# Altium footprint library EISI.PcbLib: 695 footprints (part 39 of 44)
Each footprint in its own frame and in the unit in brackets; x right, y up, seen from the top. Pads: shape width x height; smd on the part's side, far side on the other; paste and mask are expansions set on the pad; w line width, h text height; cw(c..) or ccw(c..) is an arc to the next point about the centre after c.
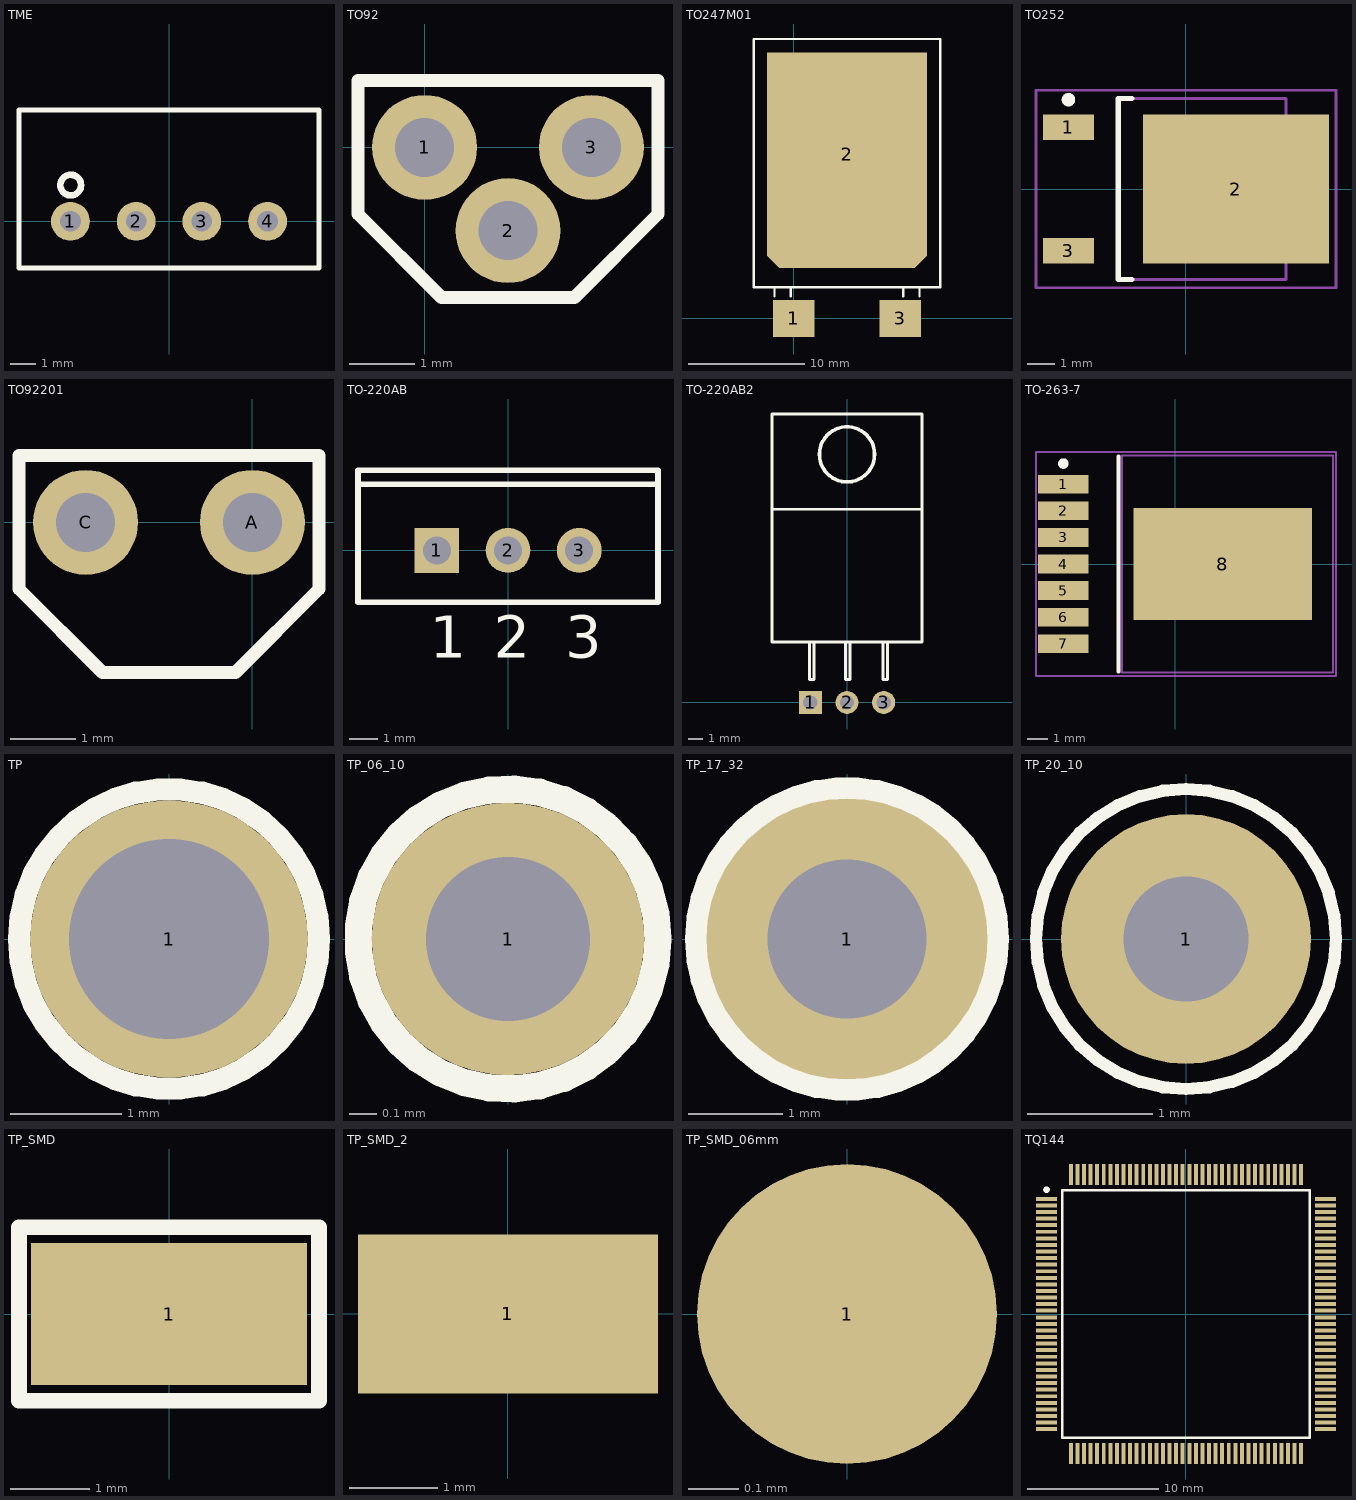
[diagram p38: the footprints below, top view; thin cyan lines are the x and y axes]

## TME [mm] "Traco TME DC/DC"
height 10.2
pads (4):
  round 1.5 hole 0.8: 1(-3.81,0) 2(-1.27,0) 3(1.27,0) 4(3.81,0)
TopOverlay:
  circle w0.254: c-3.8,1.4 r0.4
  lines w0.2: -5.8,-1.8 -5.8,4.3 5.8,4.3 5.8,-1.8 -5.8,-1.8

## TO92 [mm]
pads (3):
  round 1.6 hole 0.9: 1(0,0) 2(1.27,-1.27) 3(2.54,0)
TopOverlay:
  lines w0.2: -1.016,-1.016 -1.016,1.016 3.556,1.016 3.556,-1.016 2.286,-2.286 0.254,-2.286 -1.016,-1.016

## TO247M01 [mil]
pads (6):
  rect 140x125 smd: 1(0,0) 3(360,0)
  rect 540x690 smd: 2(180,555)
  rect 56.5x56.5 smd rot 45: ""(-50,210)
  rect 460x44 smd: ""(180,192)
  rect 56.5x56.5 smd rot 135: ""(410,210)
MidLayer14:
  rectangle: -15,835 65,875
  rectangle: 285,835 365,875
  rectangle: 250,170 330,195
  rectangle: 30,170 110,195
TopOverlay:
  lines w7.87: -65,75 -65,105 ; -10,75 -10,105 ; 370,75 370,105 ; 425,75 425,105 ; -135,105 495,105 495,945 -135,945 -135,105
TopPaste:
  lines w4: -84,217.5 -84,212.5 -81,209.5 ; -82.5,213 -79,213 ; -52.5,181 -47.5,176 -47,176 -39,176 ; -47,177.5 -45.5,179 ; -23,213.5 405.5,213.5 ; -20,211 403.5,211 ; 399,176 407,176 407.5,176 412.5,181 ; 405.5,179 407,177.5 ; 439,213 442.5,213 ; 441,209.5 444,212.5 444,217.5

## TO252 [mm] "D-PAK, 4-Leads, Body 6.1x6.6mm, Pitch 2.29mm, Lead Span 9.7mm, IPC Medium Density"
height 2.38
pads (3):
  rect 1.9x0.95 smd: 1(-4.35,2.28) 3(-4.35,-2.28)
  rect 6.9x5.5 smd: 2(1.85,0)
TopOverlay:
  circle w0.25: c-4.35,3.305 r0.125
  lines w0.2: -2,-3.35 -2.5,-3.35 -2.5,3.35 -2,3.35
Mechanical13:
  lines w0.1: -2.5,-3.35 3.7,-3.35 3.7,3.35 -2.5,3.35 -2.5,-3.35
Mechanical15:
  lines w0.1: -0.5,0 0.5,0 ; 0,-0.5 0,0.5 ; -5.55,-3.65 5.55,-3.65 5.55,3.65 -5.55,3.65 -5.55,-3.65
3D body: height 2.38, standoff 0, extent -2.499,-3.349 3.699,3.349

## TO92201 [mm]
pads (2):
  round 1.6 hole 0.9: A(0,0) C(-2.54,0)
TopOverlay:
  lines w0.2: -3.556,-1.016 -3.556,1.016 1.016,1.016 1.016,-1.016 -0.254,-2.286 -2.286,-2.286 -3.556,-1.016

## TO-220AB [mm] "TO, Thru-Hole, Vertical, Heatsink Mounted; 3 In-Line Leads; Pitch 2.54 mm"
height 19.3
pads (3):
  rect 1.6x1.6 hole 1: 1(-2.54,0)
  round 1.6 hole 1: 2(0,0) 3(2.54,0)
TopOverlay:
  lines w0.2: -5.35,2.35 5.35,2.35 ; -5.35,-1.85 5.35,-1.85 5.35,2.85 -5.35,2.85 -5.35,-1.85
  text "2" at -0.5,-3.825 h1.5
  text "1" at -2.79,-3.825 h1.5
  text "3" at 2.04,-3.825 h1.5

## TO-220AB2 [mm]
height 19.3
pads (3):
  rect 1.6x1.6 hole 1: 1(-2.54,0)
  round 1.6 hole 1: 2(0,0) 3(2.54,0)
TopOverlay:
  circle w0.254: c0,17.2 r1.91
  lines w0.2: -5.2,13.4 5.2,13.4 ; -2.6,4.2 -2.6,1.6 -2.3,1.6 -2.3,4.2 ; -0.1,4.2 -0.1,1.6 0.2,1.6 0.2,4.2 ; 2.5,4.2 2.5,1.6 2.8,1.6 2.8,4.2 ; -5.2,4.2 -5.2,20 5.2,20 5.2,4.2 -5.2,4.2

## TO-263-7 [mm] "D2-PAK, 8-Leads, Body 9.9x10.2mm, Pitch 1.27mm, Lead Span 13.8mm, NSC Recommended"
height 4.67
pads (8):
  rect 2.41x0.89 smd: 1(-5.35,3.81) 2(-5.35,2.54) 3(-5.35,1.27) 4(-5.35,0) 5(-5.35,-1.27) 6(-5.35,-2.54) 7(-5.35,-3.81)
  rect 8.54x5.35 smd: 8(2.28,0)
TopOverlay:
  circle w0.25: c-5.35,4.805 r0.125
  lines w0.2: -2.7,-5.15 -2.7,5.15
Mechanical13:
  lines w0.1: -2.55,-5.2 7.55,-5.2 7.55,5.2 -2.55,5.2 -2.55,-5.2
Mechanical15:
  lines w0.1: -0.5,0 0.5,0 ; 0,-0.5 0,0.5 ; -6.655,-5.35 7.7,-5.35 7.7,5.35 -6.655,5.35 -6.655,-5.35
3D body: height 4.67, standoff 0, extent -2.55,-5.2 7.55,5.2

## TP [mm] "Test point"
pads (1):
  round 2.5 hole 1.8: 1(0,0)
TopOverlay:
  circle w0.2: c0,0 r1.35

## TP_06_10 [mm] "Cos de test perçage 0.6mm diamètre 1mm"
pads (1):
  round 1 hole 0.6: 1(0,0)
TopOverlay:
  circle w0.1: c0,0 r0.55

## TP_17_32 [mm] "Cos de test perçage 1.7mm diamètre 3.2mm"
height 5
pads (1):
  round 3 hole 1.7: 1(0,0)
TopOverlay:
  circle w0.254: c0,0 r1.6

## TP_20_10 [mm] "Testpoint trou 1mm pad 2mm"
pads (1):
  round 2 hole 1 paste-0.05: 1(0,0)
TopOverlay:
  circle w0.1: c0,0 r1.2

## TP_SMD [mm]
pads (1):
  rect 3.5x1.8 smd: 1(0,0)
TopOverlay:
  lines w0.2: -1.9,-1.1 1.9,-1.1 1.9,1.1 -1.9,1.1 -1.9,-1.1

## TP_SMD_2 [mm] "Testpoint 236 730-0 Compona"
height 1.5
pads (1):
  rect 3.4x1.8 smd paste-0.05: 1(0,0)

## TP_SMD_06mm [mm] "Test point 0.6mm"
pads (1):
  round 0.6 smd: 1(0,0)

## TQ144 [mm] "144-Pin Thin Quad Flat Pack (TQ144)"
height 1.6
pads (144):
  rect 1.6x0.3 smd: 1(-10.6,8.75) 2(-10.6,8.25) 3(-10.6,7.75) 4(-10.6,7.25) 5(-10.6,6.75) 6(-10.6,6.25) 7(-10.6,5.75) 8(-10.6,5.25) 9(-10.6,4.75) 10(-10.6,4.25) 11(-10.6,3.75) 12(-10.6,3.25) 13(-10.6,2.75) 14(-10.6,2.25) 15(-10.6,1.75) 16(-10.6,1.25) 17(-10.6,0.75) 18(-10.6,0.25) 19(-10.6,-0.25) 20(-10.6,-0.75) 21(-10.6,-1.25) 22(-10.6,-1.75) 23(-10.6,-2.25) 24(-10.6,-2.75) 25(-10.6,-3.25) 26(-10.6,-3.75) 27(-10.6,-4.25) 28(-10.6,-4.75) 29(-10.6,-5.25) 30(-10.6,-5.75) 31(-10.6,-6.25) 32(-10.6,-6.75) 33(-10.6,-7.25) 34(-10.6,-7.75) 35(-10.6,-8.25) 36(-10.6,-8.75) 73(10.6,-8.75) 74(10.6,-8.25) 75(10.6,-7.75) 76(10.6,-7.25) 77(10.6,-6.75) 78(10.6,-6.25) 79(10.6,-5.75) 80(10.6,-5.25) 81(10.6,-4.75) 82(10.6,-4.25) 83(10.6,-3.75) 84(10.6,-3.25) 85(10.6,-2.75) 86(10.6,-2.25) 87(10.6,-1.75) 88(10.6,-1.25) 89(10.6,-0.75) 90(10.6,-0.25) 91(10.6,0.25) 92(10.6,0.75) 93(10.6,1.25) 94(10.6,1.75) 95(10.6,2.25) 96(10.6,2.75) 97(10.6,3.25) 98(10.6,3.75) 99(10.6,4.25) 100(10.6,4.75) 101(10.6,5.25) 102(10.6,5.75) 103(10.6,6.25) 104(10.6,6.75) 105(10.6,7.25) 106(10.6,7.75) 107(10.6,8.25) 108(10.6,8.75)
  rect 0.3x1.6 smd: 37(-8.75,-10.6) 38(-8.25,-10.6) 39(-7.75,-10.6) 40(-7.25,-10.6) 41(-6.75,-10.6) 42(-6.25,-10.6) 43(-5.75,-10.6) 44(-5.25,-10.6) 45(-4.75,-10.6) 46(-4.25,-10.6) 47(-3.75,-10.6) 48(-3.25,-10.6) 49(-2.75,-10.6) 50(-2.25,-10.6) 51(-1.75,-10.6) 52(-1.25,-10.6) 53(-0.75,-10.6) 54(-0.25,-10.6) 55(0.25,-10.6) 56(0.75,-10.6) 57(1.25,-10.6) 58(1.75,-10.6) 59(2.25,-10.6) 60(2.75,-10.6) 61(3.25,-10.6) 62(3.75,-10.6) 63(4.25,-10.6) 64(4.75,-10.6) 65(5.25,-10.6) 66(5.75,-10.6) 67(6.25,-10.6) 68(6.75,-10.6) 69(7.25,-10.6) 70(7.75,-10.6) 71(8.25,-10.6) 72(8.75,-10.6) 109(8.75,10.6) 110(8.25,10.6) 111(7.75,10.6) 112(7.25,10.6) 113(6.75,10.6) 114(6.25,10.6) 115(5.75,10.6) 116(5.25,10.6) 117(4.75,10.6) 118(4.25,10.6) 119(3.75,10.6) 120(3.25,10.6) 121(2.75,10.6) 122(2.25,10.6) 123(1.75,10.6) 124(1.25,10.6) 125(0.75,10.6) 126(0.25,10.6) 127(-0.25,10.6) 128(-0.75,10.6) 129(-1.25,10.6) 130(-1.75,10.6) 131(-2.25,10.6) 132(-2.75,10.6) 133(-3.25,10.6) 134(-3.75,10.6) 135(-4.25,10.6) 136(-4.75,10.6) 137(-5.25,10.6) 138(-5.75,10.6) 139(-6.25,10.6) 140(-6.75,10.6) 141(-7.25,10.6) 142(-7.75,10.6) 143(-8.25,10.6) 144(-8.75,10.6)
TopOverlay:
  circle w0.25: c-10.6,9.45 r0.125
  lines w0.2: -9.4,-9.4 -9.4,9.4 9.4,9.4 9.4,-9.4 -9.4,-9.4